# EAGLE library part WE-LLCR_ETD39 (library Wurth_Power Magnetics_WE-LLCR)
WE-LLCR Resonant Converter Characteristics Transformer for high efficiency power supply Input voltage 360–400 VDC Switching frequency 70–120 kHz Output power 150 W–250 W Testing voltage 4 kVAC Litz wire for low eddy current losses Defined leakage inductance for use without additional resonant inductor Applications Power supplies for PC, netbook, LED lighting and other power supplies High efficient resonant converters The "Value"shown for the Symbol and Packaging is Output Voltage1 Output Current1 <https://katalog.we-online.com/media/images/v2/o14804v209%20Family_WE-LLCR.jpg> Details see: https://katalog.we-online.com/en/pbs/WE-LLCR Updated by Yingchun,Shan 2019-08-27 2019(C) Wurth Elektronik
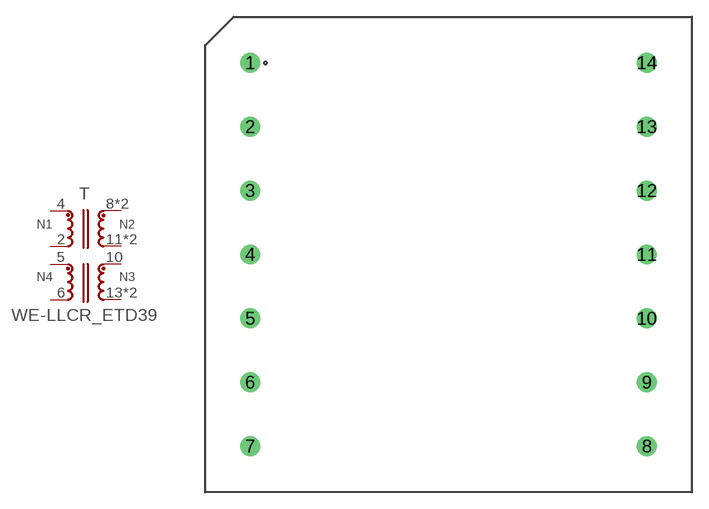
[diagram p2: symbol with the pads of WE-LLCR_ETD39; footprint WE-LLCR_ETD39]

Designator prefix T

## WE-LLCR_ETD39_760895631_SCH1 (DATASHEET-URL: https://katalog.we-online.com/pbs/datasheet/760895631.pdf; FSWITCH: 70-120kHz; ISAT: 3.5A; L: 500uH; LSMIN: 95uH; N: 35:2:2:3; PART-NUMBER: 760895631; RDC1: 145mOhm; RDC2: 2.5mOhm; RDC3: 2.5mOhm; RDC4: 150mOhm; VALUE: 12V 16.7A; VAUX: 18V; VI: 360-400V(DC))  [WE-LLCR_ETD39]
2  2  pas
4  1  pas
5  3  pas
6  4  pas
8  8  pas
9  8  pas
10  6  pas
11  7  pas
12  7  pas
13  5  pas
14  5  pas

## WE-LLCR_ETD39_760895641_SCH2 (DATASHEET-URL: https://katalog.we-online.com/pbs/datasheet/760895641.pdf; FSWITCH: 70-120kHz; ISAT: 3.5A; L: 500uH; LSMIN: 95uH; N: 35:4:4:3; PART-NUMBER: 760895641; RDC1: 145mOhm; RDC2: 7.5mOhm; RDC3: 7.5mOhm; RDC4: 160mOhm; VALUE: 24V 8.3A; VAUX: 18V; VI: 360-400V(DC)), WE-LLCR_ETD39_760895651_SCH2 (DATASHEET-URL: https://katalog.we-online.com/pbs/datasheet/760895651.pdf; FSWITCH: 70-120kHz; ISAT: 3.5A; L: 500uH; LSMIN: 95uH; N: 35:8:8:3; PART-NUMBER: 760895651; RDC1: 145mOhm; RDC2: 21.5mOhm; RDC3: 21.5mOhm; RDC4: 160mOhm; VALUE: 48V 4.2A; VAUX: 18V; VI: 360-400V(DC))  [WE-LLCR_ETD39]
2  2  pas
4  1  pas
5  3  pas
6  4  pas
8  8  pas
10  6  pas
12  7  pas
14  5  pas

## Footprint WE-LLCR_ETD39 (pad centres in mm)
WE-LLCR Resonant Converter Size ETD39 THT12 Pin
drill 1.2: 1 -18,17.4; 2 -18,11.6; 3 -18,5.8; 4 -18,0; 5 -18,-5.8; 6 -18,-11.6; 7 -18,-17.4; 8 18,-17.4; 9 18,-11.6; 10 18,-5.8; 11 18,0; 12 18,5.8; 13 18,11.6; 14 18,17.4